# Altium schematic symbol library SCH - MCU - INFINEON - INFINEON S6E2CC8JGXXB1 FBGA-192.SchLib: 1 symbol
Pins are listed as number, name and electrical type; pins without a type are passive.

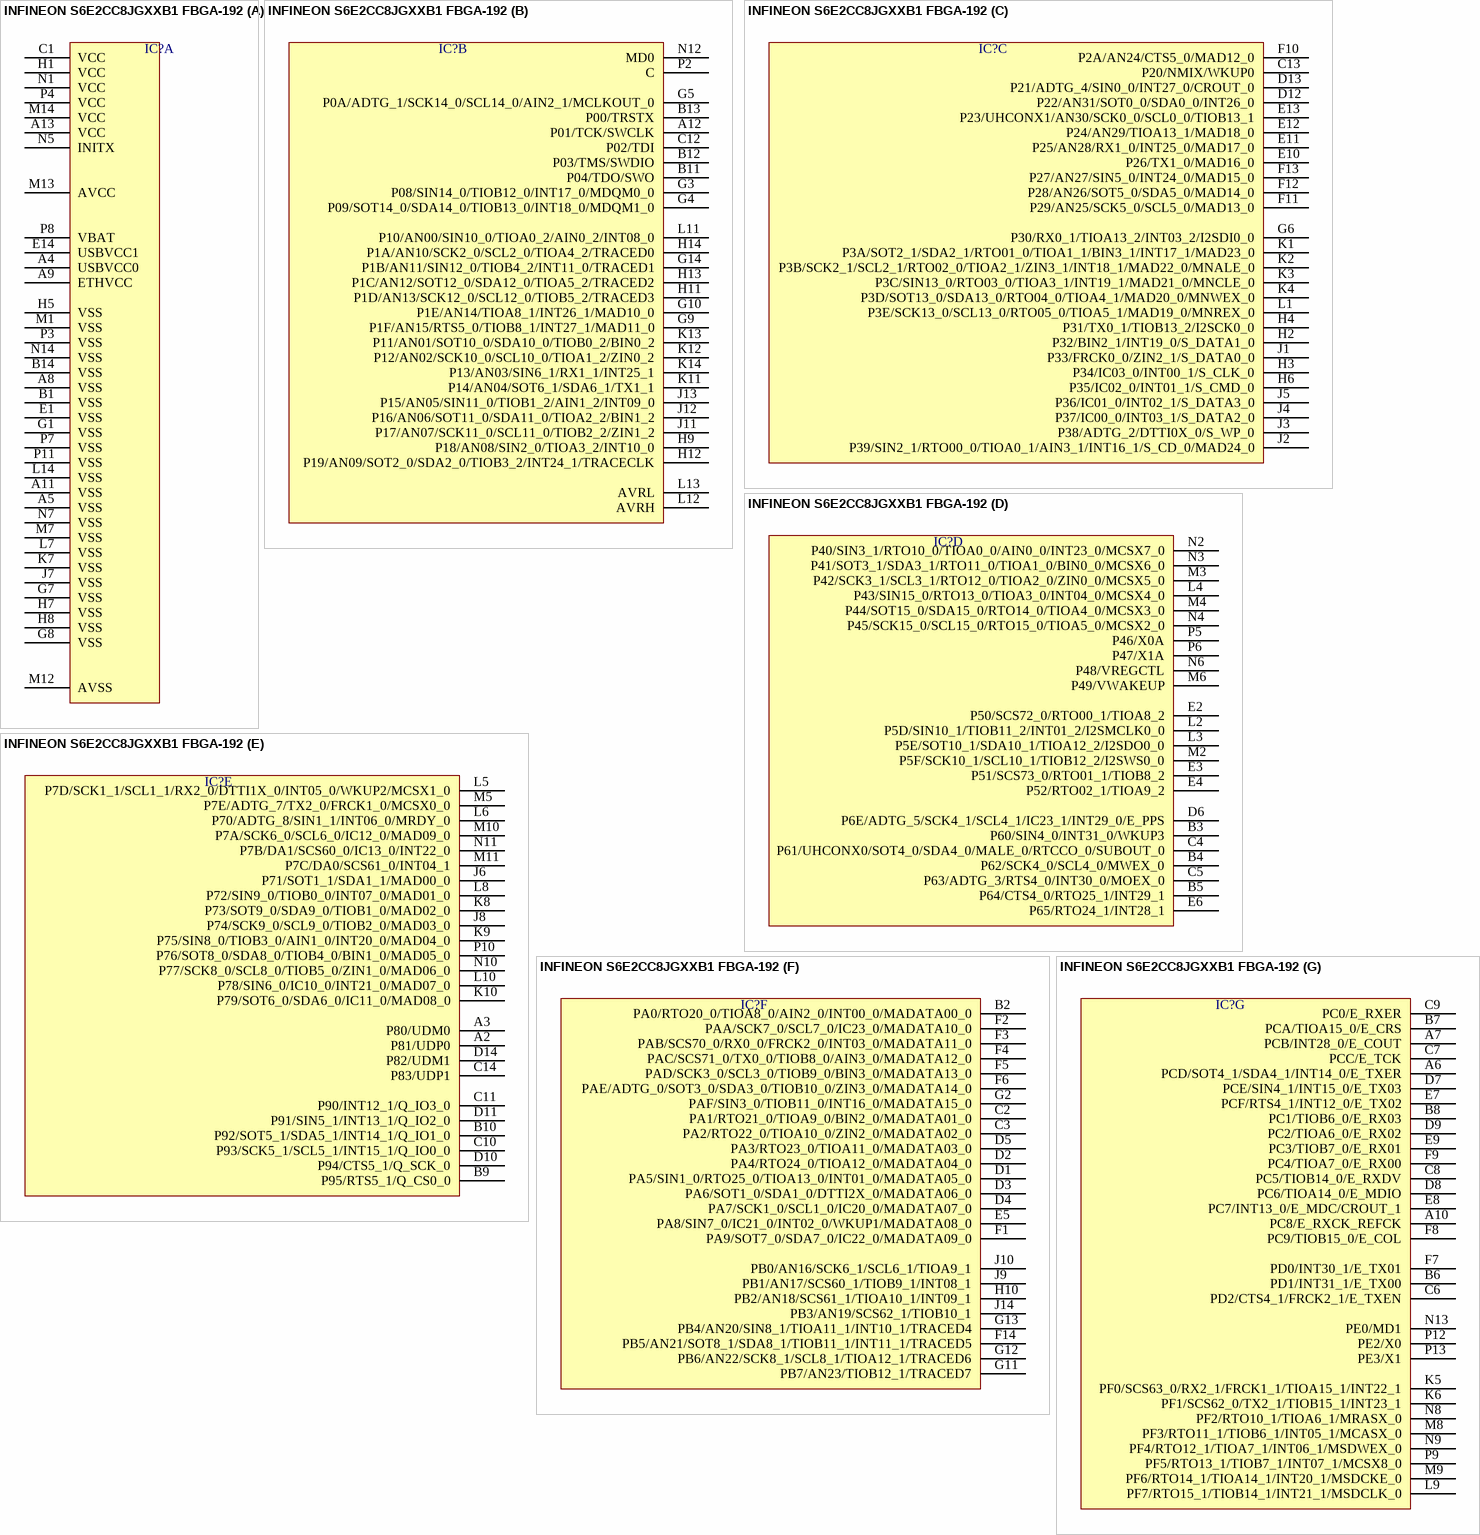
[diagram p0: symbol INFINEON S6E2CC8JGXXB1 FBGA-192]

## INFINEON S6E2CC8JGXXB1 FBGA-192
designator IC?  (value not drawn)
part A pins: A4 USBVCC0, A5 VSS, A8 VSS, A9 ETHVCC, A11 VSS, A13 VCC, B1 VSS, B14 VSS, C1 VCC, E1 VSS, E14 USBVCC1, G1 VSS, G7 VSS, G8 VSS, H1 VCC, H5 VSS, H7 VSS, H8 VSS, J7 VSS, K7 VSS, L7 VSS, L14 VSS, M1 VSS, M7 VSS, M12 AVSS, M13 AVCC, M14 VCC, N1 VCC, N5 INITX, N7 VSS, N14 VSS, P3 VSS, P4 VCC, P7 VSS, P8 VBAT, P11 VSS
part B pins: A12 P01/TCK/SWCLK, B11 P04/TDO/SWO, B12 P03/TMS/SWDIO, B13 P00/TRSTX, C12 P02/TDI, G3 P08/SIN14_0/TIOB12_0/INT17_0/MDQM0_0, G4 P09/SOT14_0/SDA14_0/TIOB13_0/INT18_0/MDQM1_0, G5 P0A/ADTG_1/SCK14_0/SCL14_0/AIN2_1/MCLKOUT_0, G9 P1F/AN15/RTS5_0/TIOB8_1/INT27_1/MAD11_0, G10 P1E/AN14/TIOA8_1/INT26_1/MAD10_0, G14 P1B/AN11/SIN12_0/TIOB4_2/INT11_0/TRACED1, H9 P18/AN08/SIN2_0/TIOA3_2/INT10_0, H11 P1D/AN13/SCK12_0/SCL12_0/TIOB5_2/TRACED3, H12 P19/AN09/SOT2_0/SDA2_0/TIOB3_2/INT24_1/TRACECLK, H13 P1C/AN12/SOT12_0/SDA12_0/TIOA5_2/TRACED2, H14 P1A/AN10/SCK2_0/SCL2_0/TIOA4_2/TRACED0, J11 P17/AN07/SCK11_0/SCL11_0/TIOB2_2/ZIN1_2, J12 P16/AN06/SOT11_0/SDA11_0/TIOA2_2/BIN1_2, J13 P15/AN05/SIN11_0/TIOB1_2/AIN1_2/INT09_0, K11 P14/AN04/SOT6_1/SDA6_1/TX1_1, K12 P12/AN02/SCK10_0/SCL10_0/TIOA1_2/ZIN0_2, K13 P11/AN01/SOT10_0/SDA10_0/TIOB0_2/BIN0_2, K14 P13/AN03/SIN6_1/RX1_1/INT25_1, L11 P10/AN00/SIN10_0/TIOA0_2/AIN0_2/INT08_0, L12 AVRH, L13 AVRL, N12 MD0, P2 C
part C pins: C13 P20/NMIX/WKUP0, D12 P22/AN31/SOT0_0/SDA0_0/INT26_0, D13 P21/ADTG_4/SIN0_0/INT27_0/CROUT_0, E10 P26/TX1_0/MAD16_0, E11 P25/AN28/RX1_0/INT25_0/MAD17_0, E12 P24/AN29/TIOA13_1/MAD18_0, E13 P23/UHCONX1/AN30/SCK0_0/SCL0_0/TIOB13_1, F10 P2A/AN24/CTS5_0/MAD12_0, F11 P29/AN25/SCK5_0/SCL5_0/MAD13_0, F12 P28/AN26/SOT5_0/SDA5_0/MAD14_0, F13 P27/AN27/SIN5_0/INT24_0/MAD15_0, G6 P30/RX0_1/TIOA13_2/INT03_2/I2SDI0_0, H2 P32/BIN2_1/INT19_0/S_DATA1_0, H3 P34/IC03_0/INT00_1/S_CLK_0, H4 P31/TX0_1/TIOB13_2/I2SCK0_0, H6 P35/IC02_0/INT01_1/S_CMD_0, J1 P33/FRCK0_0/ZIN2_1/S_DATA0_0, J2 P39/SIN2_1/RTO00_0/TIOA0_1/AIN3_1/INT16_1/S_CD_0/MAD24_0, J3 P38/ADTG_2/DTTI0X_0/S_WP_0, J4 P37/IC00_0/INT03_1/S_DATA2_0, J5 P36/IC01_0/INT02_1/S_DATA3_0, K1 P3A/SOT2_1/SDA2_1/RTO01_0/TIOA1_1/BIN3_1/INT17_1/MAD23_0, K2 P3B/SCK2_1/SCL2_1/RTO02_0/TIOA2_1/ZIN3_1/INT18_1/MAD22_0/MNALE_0, K3 P3C/SIN13_0/RTO03_0/TIOA3_1/INT19_1/MAD21_0/MNCLE_0, K4 P3D/SOT13_0/SDA13_0/RTO04_0/TIOA4_1/MAD20_0/MNWEX_0, L1 P3E/SCK13_0/SCL13_0/RTO05_0/TIOA5_1/MAD19_0/MNREX_0
part D pins: B3 P60/SIN4_0/INT31_0/WKUP3, B4 P62/SCK4_0/SCL4_0/MWEX_0, B5 P64/CTS4_0/RTO25_1/INT29_1, C4 P61/UHCONX0/SOT4_0/SDA4_0/MALE_0/RTCCO_0/SUBOUT_0, C5 P63/ADTG_3/RTS4_0/INT30_0/MOEX_0, D6 P6E/ADTG_5/SCK4_1/SCL4_1/IC23_1/INT29_0/E_PPS, E2 P50/SCS72_0/RTO00_1/TIOA8_2, E3 P51/SCS73_0/RTO01_1/TIOB8_2, E4 P52/RTO02_1/TIOA9_2, E6 P65/RTO24_1/INT28_1, L2 P5D/SIN10_1/TIOB11_2/INT01_2/I2SMCLK0_0, L3 P5E/SOT10_1/SDA10_1/TIOA12_2/I2SDO0_0, L4 P43/SIN15_0/RTO13_0/TIOA3_0/INT04_0/MCSX4_0, M2 P5F/SCK10_1/SCL10_1/TIOB12_2/I2SWS0_0, M3 P42/SCK3_1/SCL3_1/RTO12_0/TIOA2_0/ZIN0_0/MCSX5_0, M4 P44/SOT15_0/SDA15_0/RTO14_0/TIOA4_0/MCSX3_0, M6 P49/VWAKEUP, N2 P40/SIN3_1/RTO10_0/TIOA0_0/AIN0_0/INT23_0/MCSX7_0, N3 P41/SOT3_1/SDA3_1/RTO11_0/TIOA1_0/BIN0_0/MCSX6_0, N4 P45/SCK15_0/SCL15_0/RTO15_0/TIOA5_0/MCSX2_0, N6 P48/VREGCTL, P5 P46/X0A, P6 P47/X1A
part E pins: A2 P81/UDP0, A3 P80/UDM0, B9 P95/RTS5_1/Q_CS0_0, B10 P92/SOT5_1/SDA5_1/INT14_1/Q_IO1_0, C10 P93/SCK5_1/SCL5_1/INT15_1/Q_IO0_0, C11 P90/INT12_1/Q_IO3_0, C14 P83/UDP1, D10 P94/CTS5_1/Q_SCK_0, D11 P91/SIN5_1/INT13_1/Q_IO2_0, D14 P82/UDM1, J6 P71/SOT1_1/SDA1_1/MAD00_0, J8 P74/SCK9_0/SCL9_0/TIOB2_0/MAD03_0, K8 P73/SOT9_0/SDA9_0/TIOB1_0/MAD02_0, K9 P75/SIN8_0/TIOB3_0/AIN1_0/INT20_0/MAD04_0, K10 P79/SOT6_0/SDA6_0/IC11_0/MAD08_0, L5 P7D/SCK1_1/SCL1_1/RX2_0/DTTI1X_0/INT05_0/WKUP2/MCSX1_0, L6 P70/ADTG_8/SIN1_1/INT06_0/MRDY_0, L8 P72/SIN9_0/TIOB0_0/INT07_0/MAD01_0, L10 P78/SIN6_0/IC10_0/INT21_0/MAD07_0, M5 P7E/ADTG_7/TX2_0/FRCK1_0/MCSX0_0, M10 P7A/SCK6_0/SCL6_0/IC12_0/MAD09_0, M11 P7C/DA0/SCS61_0/INT04_1, N10 P77/SCK8_0/SCL8_0/TIOB5_0/ZIN1_0/MAD06_0, N11 P7B/DA1/SCS60_0/IC13_0/INT22_0, P10 P76/SOT8_0/SDA8_0/TIOB4_0/BIN1_0/MAD05_0
part F pins: B2 PA0/RTO20_0/TIOA8_0/AIN2_0/INT00_0/MADATA00_0, C2 PA1/RTO21_0/TIOA9_0/BIN2_0/MADATA01_0, C3 PA2/RTO22_0/TIOA10_0/ZIN2_0/MADATA02_0, D1 PA5/SIN1_0/RTO25_0/TIOA13_0/INT01_0/MADATA05_0, D2 PA4/RTO24_0/TIOA12_0/MADATA04_0, D3 PA6/SOT1_0/SDA1_0/DTTI2X_0/MADATA06_0, D4 PA7/SCK1_0/SCL1_0/IC20_0/MADATA07_0, D5 PA3/RTO23_0/TIOA11_0/MADATA03_0, E5 PA8/SIN7_0/IC21_0/INT02_0/WKUP1/MADATA08_0, F1 PA9/SOT7_0/SDA7_0/IC22_0/MADATA09_0, F2 PAA/SCK7_0/SCL7_0/IC23_0/MADATA10_0, F3 PAB/SCS70_0/RX0_0/FRCK2_0/INT03_0/MADATA11_0, F4 PAC/SCS71_0/TX0_0/TIOB8_0/AIN3_0/MADATA12_0, F5 PAD/SCK3_0/SCL3_0/TIOB9_0/BIN3_0/MADATA13_0, F6 PAE/ADTG_0/SOT3_0/SDA3_0/TIOB10_0/ZIN3_0/MADATA14_0, F14 PB5/AN21/SOT8_1/SDA8_1/TIOB11_1/INT11_1/TRACED5, G2 PAF/SIN3_0/TIOB11_0/INT16_0/MADATA15_0, G11 PB7/AN23/TIOB12_1/TRACED7, G12 PB6/AN22/SCK8_1/SCL8_1/TIOA12_1/TRACED6, G13 PB4/AN20/SIN8_1/TIOA11_1/INT10_1/TRACED4, H10 PB2/AN18/SCS61_1/TIOA10_1/INT09_1, J9 PB1/AN17/SCS60_1/TIOB9_1/INT08_1, J10 PB0/AN16/SCK6_1/SCL6_1/TIOA9_1, J14 PB3/AN19/SCS62_1/TIOB10_1
part G pins: A6 PCD/SOT4_1/SDA4_1/INT14_0/E_TXER, A7 PCB/INT28_0/E_COUT, A10 PC8/E_RXCK_REFCK, B6 PD1/INT31_1/E_TX00, B7 PCA/TIOA15_0/E_CRS, B8 PC1/TIOB6_0/E_RX03, C6 PD2/CTS4_1/FRCK2_1/E_TXEN, C7 PCC/E_TCK, C8 PC5/TIOB14_0/E_RXDV, C9 PC0/E_RXER, D7 PCE/SIN4_1/INT15_0/E_TX03, D8 PC6/TIOA14_0/E_MDIO, D9 PC2/TIOA6_0/E_RX02, E7 PCF/RTS4_1/INT12_0/E_TX02, E8 PC7/INT13_0/E_MDC/CROUT_1, E9 PC3/TIOB7_0/E_RX01, F7 PD0/INT30_1/E_TX01, F8 PC9/TIOB15_0/E_COL, F9 PC4/TIOA7_0/E_RX00, K5 PF0/SCS63_0/RX2_1/FRCK1_1/TIOA15_1/INT22_1, K6 PF1/SCS62_0/TX2_1/TIOB15_1/INT23_1, L9 PF7/RTO15_1/TIOB14_1/INT21_1/MSDCLK_0, M8 PF3/RTO11_1/TIOB6_1/INT05_1/MCASX_0, M9 PF6/RTO14_1/TIOA14_1/INT20_1/MSDCKE_0, N8 PF2/RTO10_1/TIOA6_1/MRASX_0, N9 PF4/RTO12_1/TIOA7_1/INT06_1/MSDWEX_0, N13 PE0/MD1, P9 PF5/RTO13_1/TIOB7_1/INT07_1/MCSX8_0, P12 PE2/X0, P13 PE3/X1